# Altium schematic symbol library EL-sense_Espressif.SchLib: 2 symbols
Pins are listed as number, name and electrical type; pins without a type are passive.

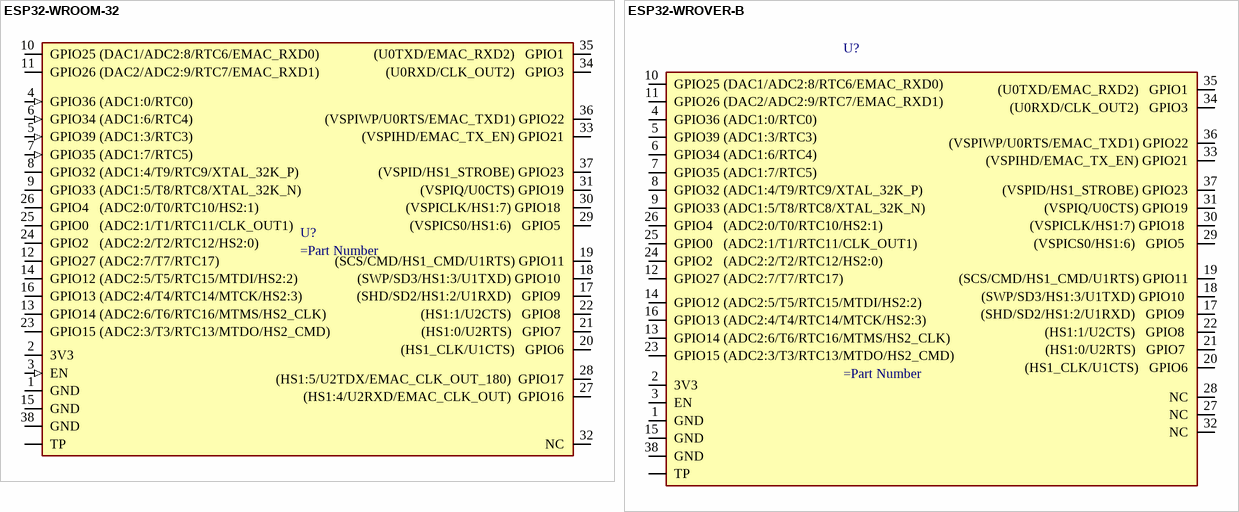
[diagram p0: symbols ESP32-WROOM-32 to ESP32-WROVER-B]

## ESP32-WROOM-32
designator U?
pins: 1 GND (power), 2 3V3 (power), 3 EN (in), 4 GPIO36 (ADC1:0/RTC0) (in), 5 GPIO39 (ADC1:3/RTC3) (in), 6 GPIO34 (ADC1:6/RTC4) (in), 7 GPIO35 (ADC1:7/RTC5) (in), 8 GPIO32 (ADC1:4/T9/RTC9/XTAL_32K_P) (io), 9 GPIO33 (ADC1:5/T8/RTC8/XTAL_32K_N) (io), 10 GPIO25 (DAC1/ADC2:8/RTC6/EMAC_RXD0) (io), 11 GPIO26 (DAC2/ADC2:9/RTC7/EMAC_RXD1) (io), 12 GPIO27 (ADC2:7/T7/RTC17) (io), 13 GPIO14 (ADC2:6/T6/RTC16/MTMS/HS2_CLK) (io), 14 GPIO12 (ADC2:5/T5/RTC15/MTDI/HS2:2) (io), 15 GND (power), 16 GPIO13 (ADC2:4/T4/RTC14/MTCK/HS2:3) (io), 17 (SHD/SD2/HS1:2/U1RXD)   GPIO9  (io), 18 (SWP/SD3/HS1:3/U1TXD) GPIO10  (io), 19 (SCS/CMD/HS1_CMD/U1RTS) GPIO11 (io), 20 (HS1_CLK/U1CTS)   GPIO6 (io), 21 (HS1:0/U2RTS)   GPIO7  (io), 22 (HS1:1/U2CTS)   GPIO8  (io), 23 GPIO15 (ADC2:3/T3/RTC13/MTDO/HS2_CMD) (io), 24 GPIO2   (ADC2:2/T2/RTC12/HS2:0) (io), 25 GPIO0   (ADC2:1/T1/RTC11/CLK_OUT1) (io), 26 GPIO4   (ADC2:0/T0/RTC10/HS2:1) (io), 27 (HS1:4/U2RXD/EMAC_CLK_OUT)  GPIO16, 28 (HS1:5/U2TDX/EMAC_CLK_OUT_180)  GPIO17, 29 (VSPICS0/HS1:6)   GPIO5  (io), 30 (VSPICLK/HS1:7) GPIO18  (io), 31 (VSPIQ/U0CTS) GPIO19 (io), 32 NC, 33 (VSPIHD/EMAC_TX_EN) GPIO21 (io), 34 (U0RXD/CLK_OUT2)   GPIO3 (io), 35 (U0TXD/EMAC_RXD2)   GPIO1 (io), 36 (VSPIWP/U0RTS/EMAC_TXD1) GPIO22 (io), 37 (VSPID/HS1_STROBE) GPIO23 (io), 38 GND (power), TP (power)

## ESP32-WROVER-B
designator U?
pins: 1 GND (power), 2 3V3, 3 EN, 4 GPIO36 (ADC1:0/RTC0), 5 GPIO39 (ADC1:3/RTC3), 6 GPIO34 (ADC1:6/RTC4), 7 GPIO35 (ADC1:7/RTC5), 8 GPIO32 (ADC1:4/T9/RTC9/XTAL_32K_P), 9 GPIO33 (ADC1:5/T8/RTC8/XTAL_32K_N), 10 GPIO25 (DAC1/ADC2:8/RTC6/EMAC_RXD0), 11 GPIO26 (DAC2/ADC2:9/RTC7/EMAC_RXD1), 12 GPIO27 (ADC2:7/T7/RTC17), 13 GPIO14 (ADC2:6/T6/RTC16/MTMS/HS2_CLK), 14 GPIO12 (ADC2:5/T5/RTC15/MTDI/HS2:2), 15 GND (power), 16 GPIO13 (ADC2:4/T4/RTC14/MTCK/HS2:3), 17 (SHD/SD2/HS1:2/U1RXD)   GPIO9 , 18 (SWP/SD3/HS1:3/U1TXD) GPIO10 , 19 (SCS/CMD/HS1_CMD/U1RTS) GPIO11, 20 (HS1_CLK/U1CTS)   GPIO6, 21 (HS1:0/U2RTS)   GPIO7 , 22 (HS1:1/U2CTS)   GPIO8 , 23 GPIO15 (ADC2:3/T3/RTC13/MTDO/HS2_CMD), 24 GPIO2   (ADC2:2/T2/RTC12/HS2:0), 25 GPIO0   (ADC2:1/T1/RTC11/CLK_OUT1), 26 GPIO4   (ADC2:0/T0/RTC10/HS2:1), 27 NC, 28 NC, 29 (VSPICS0/HS1:6)   GPIO5 , 30 (VSPICLK/HS1:7) GPIO18 , 31 (VSPIQ/U0CTS) GPIO19, 32 NC, 33 (VSPIHD/EMAC_TX_EN) GPIO21, 34 (U0RXD/CLK_OUT2)   GPIO3, 35 (U0TXD/EMAC_RXD2)   GPIO1, 36 (VSPIWP/U0RTS/EMAC_TXD1) GPIO22, 37 (VSPID/HS1_STROBE) GPIO23, 38 GND (power), TP (power)